# EAGLE library part ATSAMD51J19A-AUT (library ATSAMD51J19A-AUT)
ARM® Cortex®-M4F SAM D51 Microcontroller IC 32-Bit 120MHz 512KB (512K x 8) FLASH 64-TQFP (10x10)
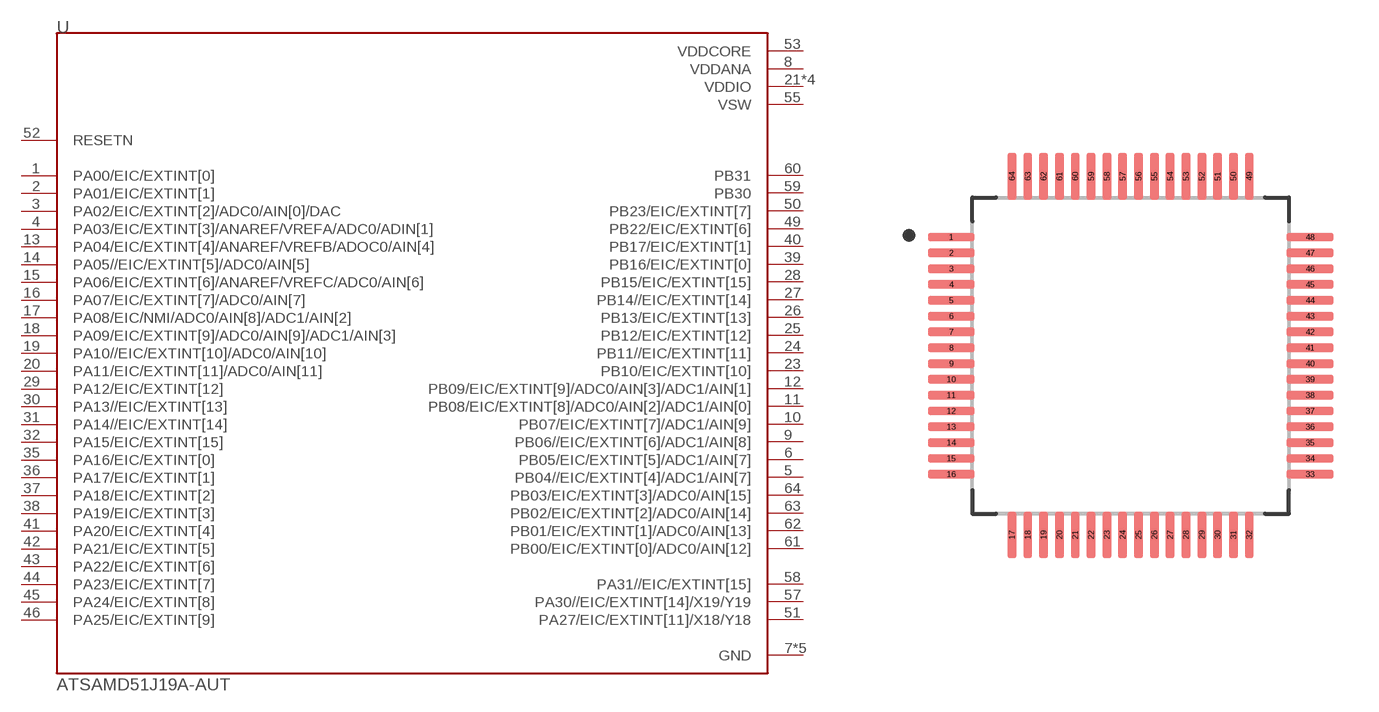
[diagram p0: symbol with the pads of QFP50P1200X1200X120-64N; footprint QFP50P1200X1200X120-64N]

Designator prefix U

## ATSAMD51J19A-AUT (Description: ARM® Cortex®-M4F SAM D51 Microcontroller IC 32-Bit 120MHz 512KB (512K x 8) FLASH 64-TQFP (10x10); Digi-Key_Part_Number: ATSAMD51J19A-AUTCT-ND; MF: Microchip Technology; MP: ATSAMD51J19A-AUT; Package: TQFP-64 Microchip)  [QFP50P1200X1200X120-64N]
1  PA00/EIC/EXTINT[0]
2  PA01/EIC/EXTINT[1]
3  PA02/EIC/EXTINT[2]/ADC0/AIN[0]/DAC
4  PA03/EIC/EXTINT[3]/ANAREF/VREFA/ADC0/ADIN[1]
5  PB04//EIC/EXTINT[4]/ADC1/AIN[7]
6  PB05/EIC/EXTINT[5]/ADC1/AIN[7]
7  GND  pwr
8  VDDANA  pwr
9  PB06//EIC/EXTINT[6]/ADC1/AIN[8]
10  PB07/EIC/EXTINT[7]/ADC1/AIN[9]
11  PB08/EIC/EXTINT[8]/ADC0/AIN[2]/ADC1/AIN[0]
12  PB09/EIC/EXTINT[9]/ADC0/AIN[3]/ADC1/AIN[1]
13  PA04/EIC/EXTINT[4]/ANAREF/VREFB/ADOC0/AIN[4]
14  PA05//EIC/EXTINT[5]/ADC0/AIN[5]
15  PA06/EIC/EXTINT[6]/ANAREF/VREFC/ADC0/AIN[6]
16  PA07/EIC/EXTINT[7]/ADC0/AIN[7]
17  PA08/EIC/NMI/ADC0/AIN[8]/ADC1/AIN[2]
18  PA09/EIC/EXTINT[9]/ADC0/AIN[9]/ADC1/AIN[3]
19  PA10//EIC/EXTINT[10]/ADC0/AIN[10]
20  PA11/EIC/EXTINT[11]/ADC0/AIN[11]
21  VDDIO  pwr
22  GND  pwr
23  PB10/EIC/EXTINT[10]
24  PB11//EIC/EXTINT[11]
25  PB12/EIC/EXTINT[12]
26  PB13/EIC/EXTINT[13]
27  PB14//EIC/EXTINT[14]
28  PB15/EIC/EXTINT[15]
29  PA12/EIC/EXTINT[12]
30  PA13//EIC/EXTINT[13]
31  PA14//EIC/EXTINT[14]
32  PA15/EIC/EXTINT[15]
33  GND  pwr
34  VDDIO  pwr
35  PA16/EIC/EXTINT[0]
36  PA17/EIC/EXTINT[1]
37  PA18/EIC/EXTINT[2]
38  PA19/EIC/EXTINT[3]
39  PB16/EIC/EXTINT[0]
40  PB17/EIC/EXTINT[1]
41  PA20/EIC/EXTINT[4]
42  PA21/EIC/EXTINT[5]
43  PA22/EIC/EXTINT[6]
44  PA23/EIC/EXTINT[7]
45  PA24/EIC/EXTINT[8]
46  PA25/EIC/EXTINT[9]
47  GND  pwr
48  VDDIO  pwr
49  PB22/EIC/EXTINT[6]
50  PB23/EIC/EXTINT[7]
51  PA27/EIC/EXTINT[11]/X18/Y18
52  RESETN  in
53  VDDCORE  pwr
54  GND  pwr
55  VSW  pwr
56  VDDIO  pwr
57  PA30//EIC/EXTINT[14]/X19/Y19
58  PA31//EIC/EXTINT[15]
59  PB30
60  PB31
61  PB00/EIC/EXTINT[0]/ADC0/AIN[12]
62  PB01/EIC/EXTINT[1]/ADC0/AIN[13]
63  PB02/EIC/EXTINT[2]/ADC0/AIN[14]
64  PB03/EIC/EXTINT[3]/ADC0/AIN[15]

## Footprint QFP50P1200X1200X120-64N (pad centres in mm)
smd 1.47 x 0.28: 1 -5.67,3.75; 2 -5.67,3.25; 3 -5.67,2.75; 4 -5.67,2.25; 5 -5.67,1.75; 6 -5.67,1.25; 7 -5.67,0.75; 8 -5.67,0.25; 9 -5.67,-0.25; 10 -5.67,-0.75; 11 -5.67,-1.25; 12 -5.67,-1.75; 13 -5.67,-2.25; 14 -5.67,-2.75; 15 -5.67,-3.25; 16 -5.67,-3.75; 33 5.67,-3.75; 34 5.67,-3.25; 35 5.67,-2.75; 36 5.67,-2.25; 37 5.67,-1.75; 38 5.67,-1.25; 39 5.67,-0.75; 40 5.67,-0.25; 41 5.67,0.25; 42 5.67,0.75; 43 5.67,1.25; 44 5.67,1.75; 45 5.67,2.25; 46 5.67,2.75; 47 5.67,3.25; 48 5.67,3.75
smd 0.28 x 1.47: 17 -3.75,-5.67; 18 -3.25,-5.67; 19 -2.75,-5.67; 20 -2.25,-5.67; 21 -1.75,-5.67; 22 -1.25,-5.67; 23 -0.75,-5.67; 24 -0.25,-5.67; 25 0.25,-5.67; 26 0.75,-5.67; 27 1.25,-5.67; 28 1.75,-5.67; 29 2.25,-5.67; 30 2.75,-5.67; 31 3.25,-5.67; 32 3.75,-5.67; 49 3.75,5.67; 50 3.25,5.67; 51 2.75,5.67; 52 2.25,5.67; 53 1.75,5.67; 54 1.25,5.67; 55 0.75,5.67; 56 0.25,5.67; 57 -0.25,5.67; 58 -0.75,5.67; 59 -1.25,5.67; 60 -1.75,5.67; 61 -2.25,5.67; 62 -2.75,5.67; 63 -3.25,5.67; 64 -3.75,5.67